# Altium footprint library 640454-3.PcbLib: 1 footprints
Each footprint in its own frame and in the unit in brackets; x right, y up, seen from the top. Pads: shape width x height; smd on the part's side, far side on the other; paste and mask are expansions set on the pad; w line width, h text height; cw(c..) or ccw(c..) is an arc to the next point about the centre after c.
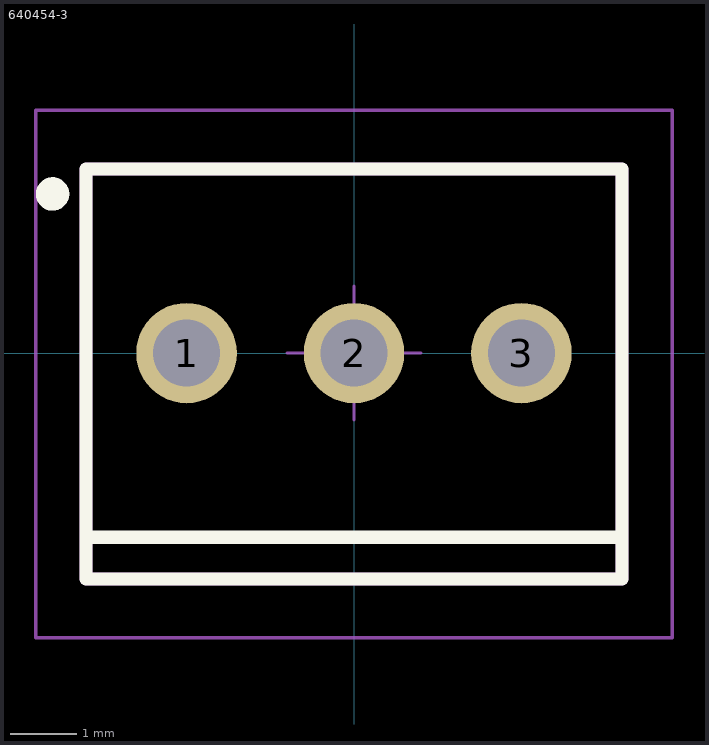
[diagram p0: the footprint, top view; thin cyan lines are the x and y axes]

## 640454-3 [mil]
pads (3):
  round 60 hole 40: 1(-100,0) 2(0,0) 3(100,0)
Top Overlay:
  circle w10: c-180,95 r5
  lines w7.87: -160,-110 160,-110 ; -160,-135 160,-135 160,110 -160,110 -160,-135
Mechanical 15:
  lines w1.97: -40,0 40,0 ; 0,-40 0,40 ; -190,-170 190,-170 190,145 -190,145 -190,-170
Mechanical 17:
  lines w7.87: -160,-135 -160,110 160,110 160,-135 -160,-135
  text ".Designator" at -140,-40 h30
Mechanical 19:
  lines w7.87: -160,-135 160,-135 160,110 -160,110 -160,-135
  text ".Comment" at -135,-35 h30
3D body: height 394.88, standoff -140.16, extent -150.01,-125.2 149.99,99.99